# Altium schematic symbol library Header1X10.SchLib: 1 symbol
Pins are listed as number, name and electrical type; pins without a type are passive.

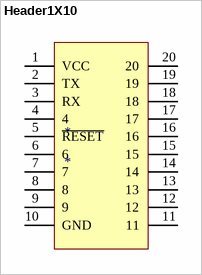
[diagram p0: symbol Header1X10]

## Header1X10
designator *
pins: 1 VCC, 2 TX, 3 RX, 4, 5 ~{RESET}, 6, 7, 8, 9, 10 GND, 11, 12, 13, 14, 15, 16, 17, 18, 19, 20